# Altium footprint library JACK.PcbLib: 1 footprints
Each footprint in its own frame and in the unit in brackets; x right, y up, seen from the top. Pads: shape width x height; smd on the part's side, far side on the other; paste and mask are expansions set on the pad; w line width, h text height; cw(c..) or ccw(c..) is an arc to the next point about the centre after c.
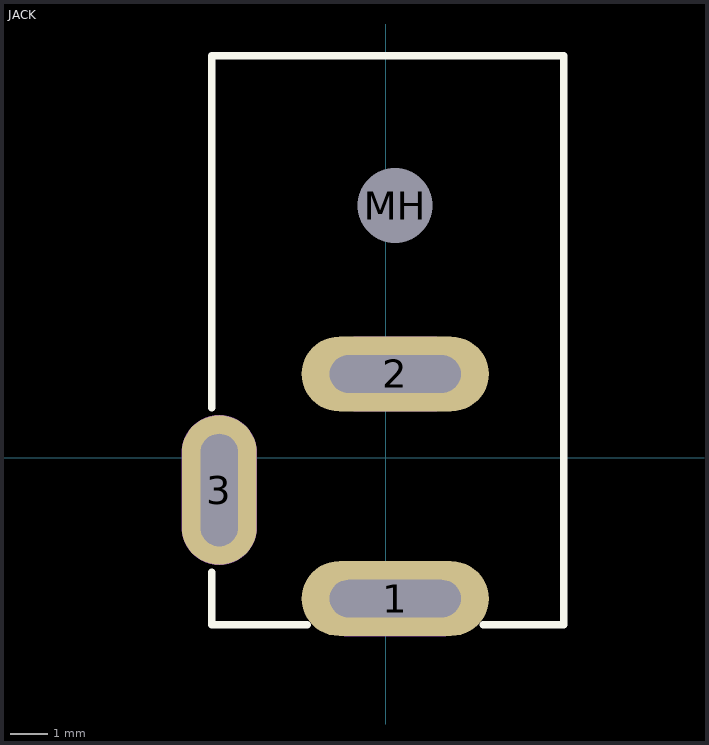
[diagram p0: the footprint, top view; thin cyan lines are the x and y axes]

## JACK [mm]
pads (4):
  oval 5x2 hole 1 slot 3.5 at 0 deg: 1(0.254,-3.769) 2(0.254,2.231)
  oval 2x4 hole 1 slot 3 at 90 deg: 3(-4.446,-0.869)
  round 1.9 hole 2: MH(0.254,6.731)
Top Overlay:
  lines w0.2: -4.646,-3.069 -4.646,-4.469 -2.096,-4.469 ; -4.646,1.331 -4.646,10.731 4.754,10.731 4.754,-4.469 2.604,-4.469
Mechanical 1:
  lines w1: -4.446,-1.869 -4.446,0.131 ; -0.996,-3.769 1.504,-3.769 ; -0.746,2.231 1.254,2.231
Top Assembly:
  lines w2.016: -4.446,-1.869 -4.446,0.131 ; -0.996,-3.769 1.504,-3.769 ; -0.746,2.231 1.254,2.231
3D body "SW3dPS-PowerJack-2.5x5.7mm.STEP": height 11, standoff -3.5, extent -4.646,-4.469 4.754,10.731